# Altium footprint library MOLEX-10_180.PcbLib: 1 footprints
Each footprint in its own frame and in the unit in brackets; x right, y up, seen from the top. Pads: shape width x height; smd on the part's side, far side on the other; paste and mask are expansions set on the pad; w line width, h text height; cw(c..) or ccw(c..) is an arc to the next point about the centre after c.
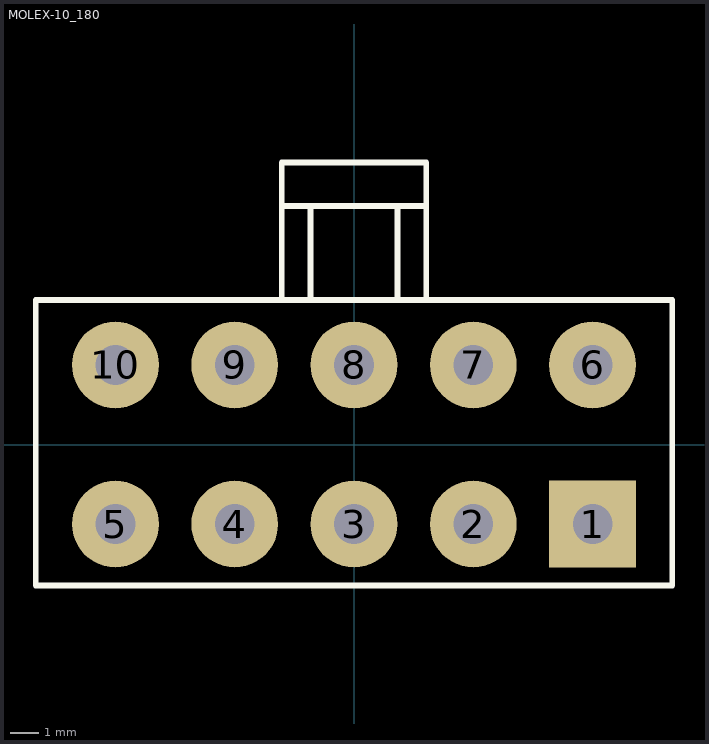
[diagram p0: the footprint, top view; thin cyan lines are the x and y axes]

## MOLEX-10_180 [mil]
pads (10):
  rect 120x120 hole 55: 1(330,-110)
  round 120 hole 55: 2(165,-110) 3(0,-110) 4(-165,-110) 5(-330,-110) 6(330,110) 7(165,110) 8(0,110) 9(-165,110) 10(-330,110)
TopOverlay:
  lines w8: -100,200 -100,390 100,390 100,200 ; -100,330 95,330 ; -60,200 -60,330 ; 60,200 60,330 ; -440,-195 -440,200 220,200 440,200 440,-195 -440,-195